# Altium footprint library con-jst.PCBLIB: 24 footprints (part 1 of 2)
Each footprint in its own frame and in the unit in brackets; x right, y up, seen from the top. Pads: shape width x height; smd on the part's side, far side on the other; paste and mask are expansions set on the pad; w line width, h text height; cw(c..) or ccw(c..) is an arc to the next point about the centre after c.
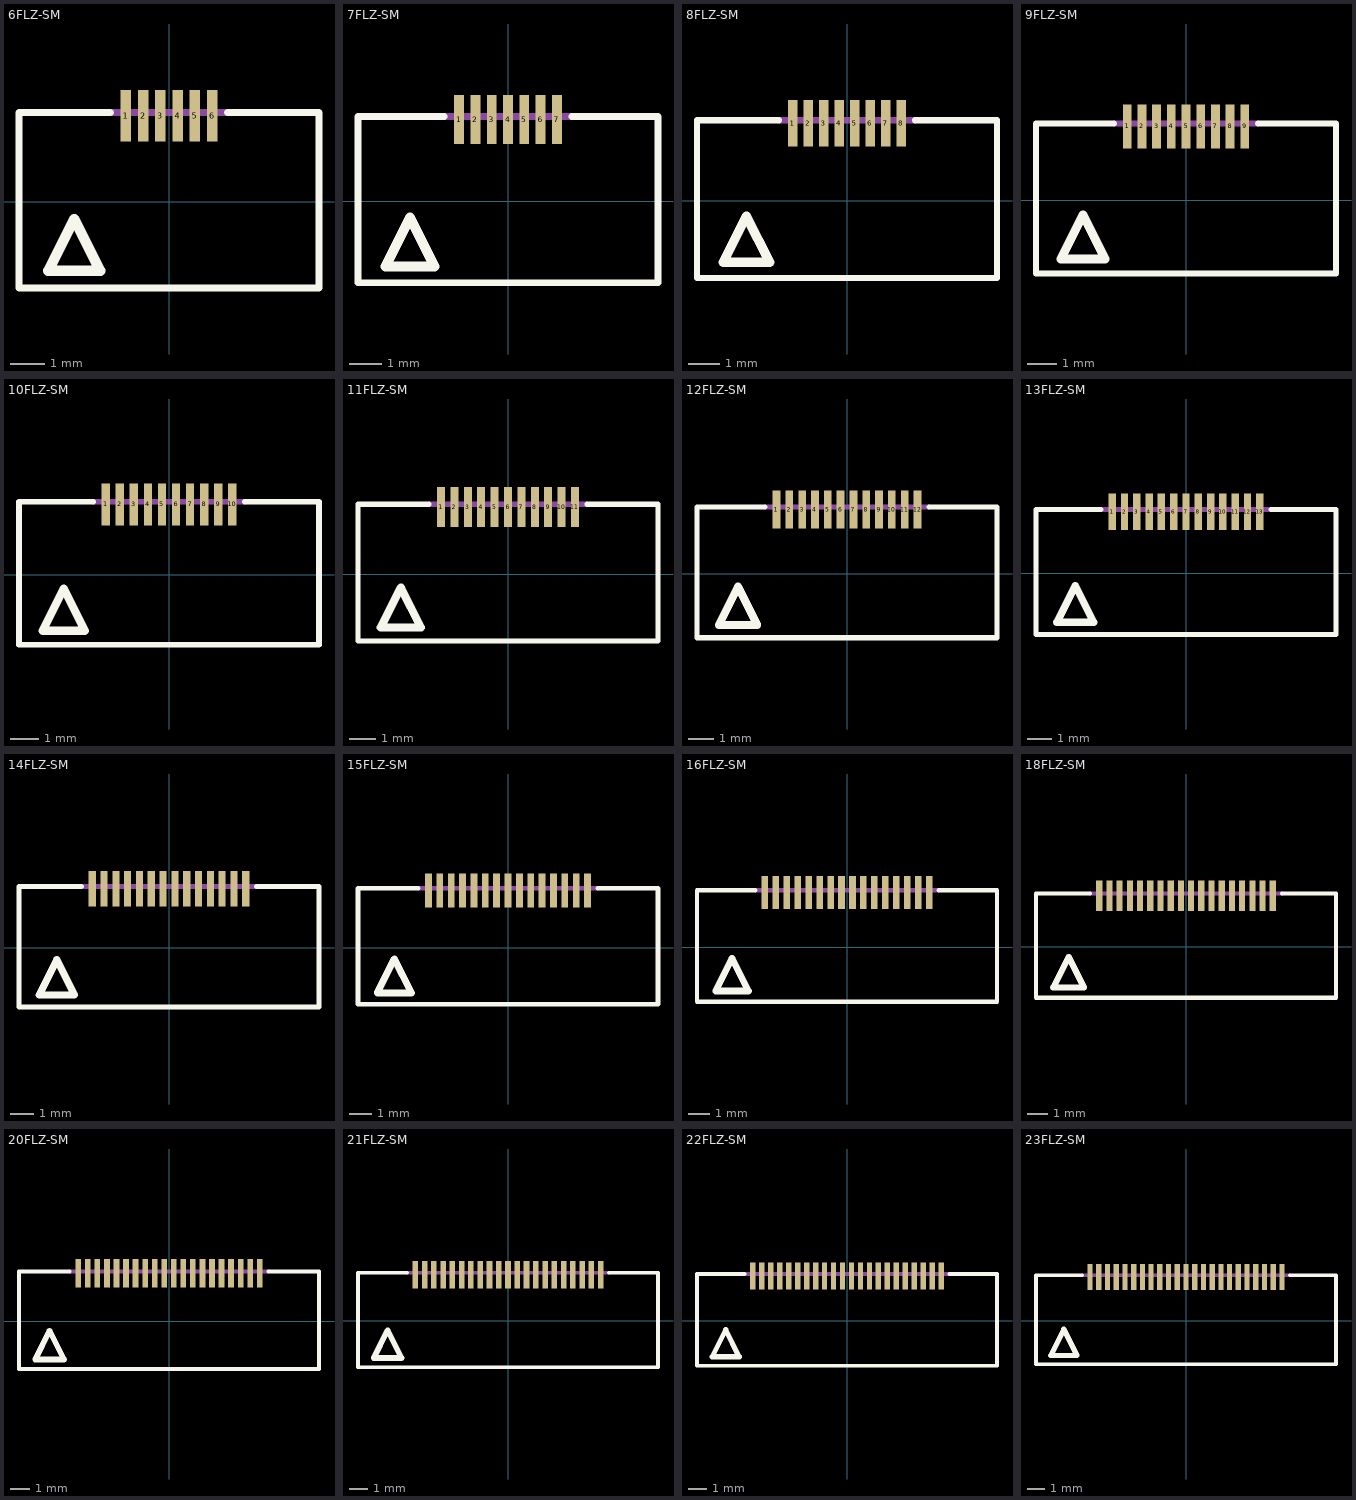
[diagram p0: the footprints below, top view; thin cyan lines are the x and y axes]

## 6FLZ-SM [mm]
pads (6):
  rect 0.3x1.5 smd: 1(-1.25,2.5) 2(-0.75,2.5) 3(-0.25,2.5) 4(0.25,2.5) 5(0.75,2.5) 6(1.25,2.5)
Top Overlay:
  lines w0.203: -1.7,2.6 -4.35,2.6 -4.35,-2.5 4.35,-2.5 4.35,2.6 1.7,2.6
  lines w0.305: -3.5,-2 -2.75,-0.5 -2,-2 -3.5,-2
Mechanical 16:
  lines w0.203: -1.7,2.6 1.7,2.6

## 7FLZ-SM [mm]
pads (7):
  rect 0.3x1.5 smd: 1(-1.5,2.5) 2(-1,2.5) 3(-0.5,2.5) 4(0,2.5) 5(0.5,2.5) 6(1,2.5) 7(1.5,2.5)
Top Overlay:
  lines w0.203: -1.95,2.6 -4.6,2.6 -4.6,-2.5 4.6,-2.5 4.6,2.6 1.95,2.6
  lines w0.305: -3.75,-2 -3,-0.5 -2.25,-2 -3.75,-2
Mechanical 16:
  lines w0.203: -1.95,2.6 1.95,2.6

## 8FLZ-SM [mm]
pads (8):
  rect 0.3x1.5 smd: 1(-1.75,2.5) 2(-1.25,2.5) 3(-0.75,2.5) 4(-0.25,2.5) 5(0.25,2.5) 6(0.75,2.5) 7(1.25,2.5) 8(1.75,2.5)
Top Overlay:
  lines w0.203: -2.2,2.6 -4.85,2.6 -4.85,-2.5 4.85,-2.5 4.85,2.6 2.2,2.6
  lines w0.305: -4,-2 -3.25,-0.5 -2.5,-2 -4,-2
Mechanical 16:
  lines w0.203: -2.2,2.6 2.2,2.6

## 9FLZ-SM [mm]
pads (9):
  rect 0.3x1.5 smd: 1(-2,2.5) 2(-1.5,2.5) 3(-1,2.5) 4(-0.5,2.5) 5(0,2.5) 6(0.5,2.5) 7(1,2.5) 8(1.5,2.5) 9(2,2.5)
Top Overlay:
  lines w0.203: -2.45,2.6 -5.1,2.6 -5.1,-2.5 5.1,-2.5 5.1,2.6 2.45,2.6
  lines w0.305: -4.25,-2 -3.5,-0.5 -2.75,-2 -4.25,-2
Mechanical 16:
  lines w0.203: -2.45,2.6 2.45,2.6

## 10FLZ-SM [mm]
pads (10):
  rect 0.3x1.5 smd: 1(-2.25,2.5) 2(-1.75,2.5) 3(-1.25,2.5) 4(-0.75,2.5) 5(-0.25,2.5) 6(0.25,2.5) 7(0.75,2.5) 8(1.25,2.5) 9(1.75,2.5) 10(2.25,2.5)
Top Overlay:
  lines w0.203: -2.7,2.6 -5.35,2.6 -5.35,-2.5 5.35,-2.5 5.35,2.6 2.7,2.6
  lines w0.305: -4.5,-2 -3.75,-0.5 -3,-2 -4.5,-2
Mechanical 16:
  lines w0.203: -2.7,2.6 2.7,2.6

## 11FLZ-SM [mm]
pads (11):
  rect 0.3x1.5 smd: 1(-2.5,2.5) 2(-2,2.5) 3(-1.5,2.5) 4(-1,2.5) 5(-0.5,2.5) 6(0,2.5) 7(0.5,2.5) 8(1,2.5) 9(1.5,2.5) 10(2,2.5) 11(2.5,2.5)
Top Overlay:
  lines w0.203: -2.95,2.6 -5.6,2.6 -5.6,-2.5 5.6,-2.5 5.6,2.6 2.95,2.6
  lines w0.305: -4.75,-2 -4,-0.5 -3.25,-2 -4.75,-2
Mechanical 16:
  lines w0.203: -2.95,2.6 2.95,2.6

## 12FLZ-SM [mm]
pads (12):
  rect 0.3x1.5 smd: 1(-2.75,2.5) 2(-2.25,2.5) 3(-1.75,2.5) 4(-1.25,2.5) 5(-0.75,2.5) 6(-0.25,2.5) 7(0.25,2.5) 8(0.75,2.5) 9(1.25,2.5) 10(1.75,2.5) 11(2.25,2.5) 12(2.75,2.5)
Top Overlay:
  lines w0.203: -3.2,2.6 -5.85,2.6 -5.85,-2.5 5.85,-2.5 5.85,2.6 3.2,2.6
  lines w0.305: -5,-2 -4.25,-0.5 -3.5,-2 -5,-2
Mechanical 16:
  lines w0.203: -3.2,2.6 3.2,2.6

## 13FLZ-SM [mm]
pads (13):
  rect 0.3x1.5 smd: 1(-3,2.5) 2(-2.5,2.5) 3(-2,2.5) 4(-1.5,2.5) 5(-1,2.5) 6(-0.5,2.5) 7(0,2.5) 8(0.5,2.5) 9(1,2.5) 10(1.5,2.5) 11(2,2.5) 12(2.5,2.5) 13(3,2.5)
Top Overlay:
  lines w0.203: -3.45,2.6 -6.1,2.6 -6.1,-2.5 6.1,-2.5 6.1,2.6 3.45,2.6
  lines w0.305: -5.25,-2 -4.5,-0.5 -3.75,-2 -5.25,-2
Mechanical 16:
  lines w0.203: -3.45,2.6 3.45,2.6

## 14FLZ-SM [mm]
pads (14):
  rect 0.3x1.5 smd: 1(-3.25,2.5) 2(-2.75,2.5) 3(-2.25,2.5) 4(-1.75,2.5) 5(-1.25,2.5) 6(-0.75,2.5) 7(-0.25,2.5) 8(0.25,2.5) 9(0.75,2.5) 10(1.25,2.5) 11(1.75,2.5) 12(2.25,2.5) 13(2.75,2.5) 14(3.25,2.5)
Top Overlay:
  lines w0.203: -3.7,2.6 -6.35,2.6 -6.35,-2.5 6.35,-2.5 6.35,2.6 3.7,2.6
  lines w0.305: -5.5,-2 -4.75,-0.5 -4,-2 -5.5,-2
Mechanical 16:
  lines w0.203: -3.7,2.6 3.7,2.6

## 15FLZ-SM [mm]
pads (15):
  rect 0.3x1.5 smd: 1(-3.5,2.5) 2(-3,2.5) 3(-2.5,2.5) 4(-2,2.5) 5(-1.5,2.5) 6(-1,2.5) 7(-0.5,2.5) 8(0,2.5) 9(0.5,2.5) 10(1,2.5) 11(1.5,2.5) 12(2,2.5) 13(2.5,2.5) 14(3,2.5) 15(3.5,2.5)
Top Overlay:
  lines w0.203: -3.95,2.6 -6.6,2.6 -6.6,-2.5 6.6,-2.5 6.6,2.6 3.95,2.6
  lines w0.305: -5.75,-2 -5,-0.5 -4.25,-2 -5.75,-2
Mechanical 16:
  lines w0.203: -3.95,2.6 3.95,2.6

## 16FLZ-SM [mm]
pads (16):
  rect 0.3x1.5 smd: 1(-3.75,2.5) 2(-3.25,2.5) 3(-2.75,2.5) 4(-2.25,2.5) 5(-1.75,2.5) 6(-1.25,2.5) 7(-0.75,2.5) 8(-0.25,2.5) 9(0.25,2.5) 10(0.75,2.5) 11(1.25,2.5) 12(1.75,2.5) 13(2.25,2.5) 14(2.75,2.5) 15(3.25,2.5) 16(3.75,2.5)
Top Overlay:
  lines w0.203: -4.2,2.6 -6.85,2.6 -6.85,-2.5 6.85,-2.5 6.85,2.6 4.2,2.6
  lines w0.305: -6,-2 -5.25,-0.5 -4.5,-2 -6,-2
Mechanical 16:
  lines w0.203: -4.2,2.6 4.2,2.6

## 18FLZ-SM [mm]
pads (18):
  rect 0.3x1.5 smd: 1(-4.25,2.5) 2(-3.75,2.5) 3(-3.25,2.5) 4(-2.75,2.5) 5(-2.25,2.5) 6(-1.75,2.5) 7(-1.25,2.5) 8(-0.75,2.5) 9(-0.25,2.5) 10(0.25,2.5) 11(0.75,2.5) 12(1.25,2.5) 13(1.75,2.5) 14(2.25,2.5) 15(2.75,2.5) 16(3.25,2.5) 17(3.75,2.5) 18(4.25,2.5)
Top Overlay:
  lines w0.203: -4.7,2.6 -7.35,2.6 -7.35,-2.5 7.35,-2.5 7.35,2.6 4.7,2.6
  lines w0.305: -6.5,-2 -5.75,-0.5 -5,-2 -6.5,-2
Mechanical 16:
  lines w0.203: -4.7,2.6 4.7,2.6

## 20FLZ-SM [mm]
pads (20):
  rect 0.3x1.5 smd: 1(-4.75,2.5) 2(-4.25,2.5) 3(-3.75,2.5) 4(-3.25,2.5) 5(-2.75,2.5) 6(-2.25,2.5) 7(-1.75,2.5) 8(-1.25,2.5) 9(-0.75,2.5) 10(-0.25,2.5) 11(0.25,2.5) 12(0.75,2.5) 13(1.25,2.5) 14(1.75,2.5) 15(2.25,2.5) 16(2.75,2.5) 17(3.25,2.5) 18(3.75,2.5) 19(4.25,2.5) 20(4.75,2.5)
Top Overlay:
  lines w0.203: -5.2,2.6 -7.85,2.6 -7.85,-2.5 7.85,-2.5 7.85,2.6 5.2,2.6
  lines w0.305: -7,-2 -6.25,-0.5 -5.5,-2 -7,-2
Mechanical 16:
  lines w0.203: -5.2,2.6 5.2,2.6

## 21FLZ-SM [mm]
pads (21):
  rect 0.3x1.5 smd: 1(-5,2.5) 2(-4.5,2.5) 3(-4,2.5) 4(-3.5,2.5) 5(-3,2.5) 6(-2.5,2.5) 7(-2,2.5) 8(-1.5,2.5) 9(-1,2.5) 10(-0.5,2.5) 11(0,2.5) 12(0.5,2.5) 13(1,2.5) 14(1.5,2.5) 15(2,2.5) 16(2.5,2.5) 17(3,2.5) 18(3.5,2.5) 19(4,2.5) 20(4.5,2.5) 21(5,2.5)
Top Overlay:
  lines w0.203: -5.45,2.6 -8.1,2.6 -8.1,-2.5 8.1,-2.5 8.1,2.6 5.45,2.6
  lines w0.305: -7.25,-2 -6.5,-0.5 -5.75,-2 -7.25,-2
Mechanical 16:
  lines w0.203: -5.45,2.6 5.45,2.6

## 22FLZ-SM [mm]
pads (22):
  rect 0.3x1.5 smd: 1(-5.25,2.5) 2(-4.75,2.5) 3(-4.25,2.5) 4(-3.75,2.5) 5(-3.25,2.5) 6(-2.75,2.5) 7(-2.25,2.5) 8(-1.75,2.5) 9(-1.25,2.5) 10(-0.75,2.5) 11(-0.25,2.5) 12(0.25,2.5) 13(0.75,2.5) 14(1.25,2.5) 15(1.75,2.5) 16(2.25,2.5) 17(2.75,2.5) 18(3.25,2.5) 19(3.75,2.5) 20(4.25,2.5) 21(4.75,2.5) 22(5.25,2.5)
Top Overlay:
  lines w0.203: -5.7,2.6 -8.35,2.6 -8.35,-2.5 8.35,-2.5 8.35,2.6 5.7,2.6
  lines w0.305: -7.5,-2 -6.75,-0.5 -6,-2 -7.5,-2
Mechanical 16:
  lines w0.203: -5.7,2.6 5.7,2.6

## 23FLZ-SM [mm]
pads (23):
  rect 0.3x1.5 smd: 1(-5.5,2.5) 2(-5,2.5) 3(-4.5,2.5) 4(-4,2.5) 5(-3.5,2.5) 6(-3,2.5) 7(-2.5,2.5) 8(-2,2.5) 9(-1.5,2.5) 10(-1,2.5) 11(-0.5,2.5) 12(0,2.5) 13(0.5,2.5) 14(1,2.5) 15(1.5,2.5) 16(2,2.5) 17(2.5,2.5) 18(3,2.5) 19(3.5,2.5) 20(4,2.5) 21(4.5,2.5) 22(5,2.5) 23(5.5,2.5)
Top Overlay:
  lines w0.203: -5.95,2.6 -8.6,2.6 -8.6,-2.5 8.6,-2.5 8.6,2.6 5.95,2.6
  lines w0.305: -7.75,-2 -7,-0.5 -6.25,-2 -7.75,-2
Mechanical 16:
  lines w0.203: -5.95,2.6 5.95,2.6